# EAGLE library part MAX3421 (library Maxim)
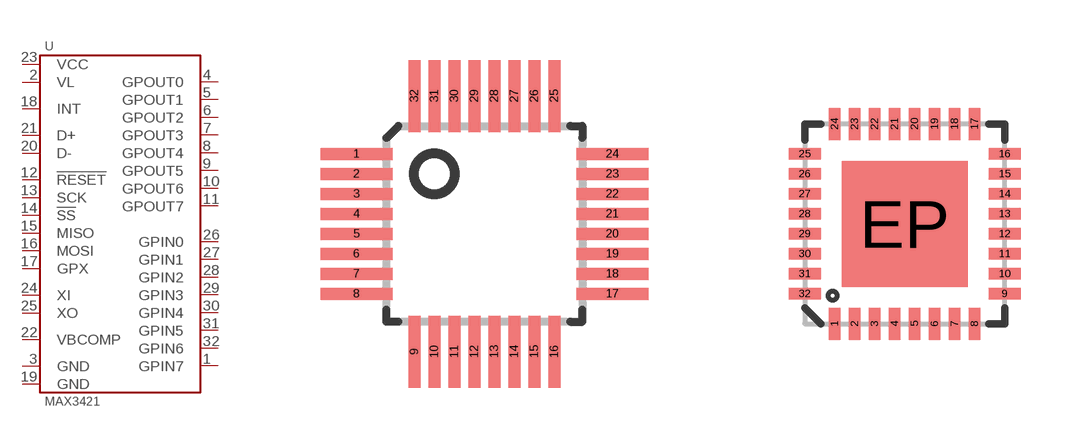
[diagram p1: symbol with the pads of LQFP-23; footprints LQFP-23, QFN-32]

Designator prefix U

## MAX3421EEHJ+  [LQFP-23]
1  GPIN7
2  VL
3  GND
4  GPOUT0
5  GPOUT1
6  GPOUT2
7  GPOUT3
8  GPOUT4
9  GPOUT5
10  GPOUT6
11  GPOUT7
12  !RESET
13  SCK
14  !SS
15  MISO
16  MOSI
17  GPX
18  INT
19  GND
20  D-
21  D+
22  VBCOMP
23  VCC
24  XI
25  XO
26  GPIN0
27  GPIN1
28  GPIN2
29  GPIN3
30  GPIN4
31  GPIN5
32  GPIN6

## MAX3421EETJ+  [QFN-32]
1  GPIN7
2  VL
3  GND
4  GPOUT0
5  GPOUT1
6  GPOUT2
7  GPOUT3
8  GPOUT4
9  GPOUT5
10  GPOUT6
11  GPOUT7
12  !RESET
13  SCK
14  !SS
15  MISO
16  MOSI
17  GPX
18  INT
19  GND
20  D-
21  D+
22  VBCOMP
23  VCC
24  XI
25  XO
26  GPIN0
27  GPIN1
28  GPIN2
29  GPIN3
30  GPIN4
31  GPIN5
32  GPIN6
EP  GND

## Footprint LQFP-23 (pad centres in mm)
smd 1.8 x 0.3: 1 -3.2,1.75; 2 -3.2,1.25; 3 -3.2,0.75; 4 -3.2,0.25; 5 -3.2,-0.25; 6 -3.2,-0.75; 7 -3.2,-1.25; 8 -3.2,-1.75; 17 3.2,-1.75; 18 3.2,-1.25; 19 3.2,-0.75; 20 3.2,-0.25; 21 3.2,0.25; 22 3.2,0.75; 23 3.2,1.25; 24 3.2,1.75
smd 0.3 x 1.8: 9 -1.75,-3.2; 10 -1.25,-3.2; 11 -0.75,-3.2; 12 -0.25,-3.2; 13 0.25,-3.2; 14 0.75,-3.2; 15 1.25,-3.2; 16 1.75,-3.2; 25 1.75,3.2; 26 1.25,3.2; 27 0.75,3.2; 28 0.25,3.2; 29 -0.25,3.2; 30 -0.75,3.2; 31 -1.25,3.2; 32 -1.75,3.2

## Footprint QFN-32 (pad centres in mm)
smd 0.285 x 0.8: 1 -1.75,-2.5; 2 -1.25,-2.5; 3 -0.75,-2.5; 4 -0.25,-2.5; 5 0.25,-2.5; 6 0.75,-2.5; 7 1.25,-2.5; 8 1.75,-2.5; 17 1.75,2.5; 18 1.25,2.5; 19 0.75,2.5; 20 0.25,2.5; 21 -0.25,2.5; 22 -0.75,2.5; 23 -1.25,2.5; 24 -1.75,2.5
smd 0.8 x 0.285: 9 2.5,-1.75; 10 2.5,-1.25; 11 2.5,-0.75; 12 2.5,-0.25; 13 2.5,0.25; 14 2.5,0.75; 15 2.5,1.25; 16 2.5,1.75; 25 -2.5,1.75; 26 -2.5,1.25; 27 -2.5,0.75; 28 -2.5,0.25; 29 -2.5,-0.25; 30 -2.5,-0.75; 31 -2.5,-1.25; 32 -2.5,-1.75
smd 3.15 x 3.15: EP 0,0